# EAGLE library part LCD-16BIT-TOUCH-SDCARD-2.4 (library p.peter-periphery)
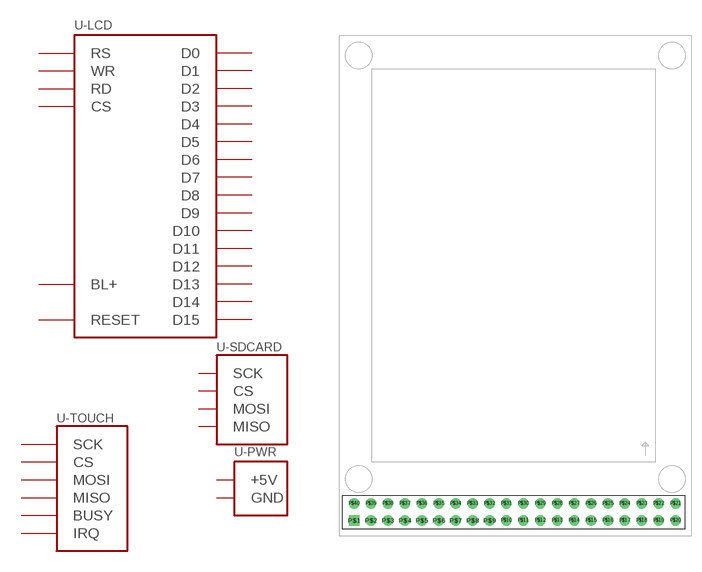
[diagram p3: symbol with the pads of LCD-2_4-TOUCH-DIP; footprint LCD-2_4-TOUCH-DIP]

Designator prefix -; gates -LCD=LCD-16BIT-DATA -PWR=LCD-16BIT-PWR -TOUCH=LCD-16BIT-TOUCH -SDCARD=LCD-S6BIT-SDCARD

## LCD-16BIT-TOUCH-SDCARD-2.4DIP  [LCD-2_4-TOUCH-DIP]
P$1  -PWR:GND  pwr
P$2  -PWR:+5V  pwr
P$4  -LCD:RS
P$5  -LCD:WR
P$6  -LCD:RD
P$7  -LCD:D8
P$8  -LCD:D9
P$9  -LCD:D10
P$10  -LCD:D11
P$11  -LCD:D12
P$12  -LCD:D13
P$13  -LCD:D14
P$14  -LCD:D15
P$15  -LCD:CS
P$17  -LCD:RESET
P$19  -LCD:BL+
P$23  -SDCARD:CS
P$24  -SDCARD:MOSI
P$25  -SDCARD:SCK
P$26  -SDCARD:MISO
P$27  -TOUCH:IRQ
P$28  -TOUCH:MISO
P$29  -TOUCH:BUSY
P$30  -TOUCH:MOSI
P$31  -TOUCH:CS
P$32  -TOUCH:SCK
P$33  -LCD:D7
P$34  -LCD:D6
P$35  -LCD:D5
P$36  -LCD:D4
P$37  -LCD:D3
P$38  -LCD:D2
P$39  -LCD:D1
P$40  -LCD:D0

## Footprint LCD-2_4-TOUCH-DIP (pad centres in mm)
drill 1.016 square: P$1 -24.18,-35.25
drill 1.016: P$2 -21.64,-35.25; P$3 -19.1,-35.25; P$4 -16.56,-35.25; P$5 -14.02,-35.25; P$6 -11.48,-35.25; P$7 -8.94,-35.25; P$8 -6.4,-35.25; P$9 -3.86,-35.25; P$10 -1.32,-35.25; P$11 1.22,-35.25; P$12 3.76,-35.25; P$13 6.3,-35.25; P$14 8.84,-35.25; P$15 11.38,-35.25; P$16 13.92,-35.25; P$17 16.46,-35.25; P$18 19,-35.25; P$19 21.54,-35.25; P$20 24.08,-35.25; P$21 24.08,-32.71; P$22 21.54,-32.71; P$23 19,-32.71; P$24 16.46,-32.71; P$25 13.92,-32.71; P$26 11.38,-32.71; P$27 8.84,-32.71; P$28 6.3,-32.71; P$29 3.76,-32.71; P$30 1.22,-32.71; P$31 -1.32,-32.71; P$32 -3.86,-32.71; P$33 -6.4,-32.71; P$34 -8.94,-32.71; P$35 -11.48,-32.71; P$36 -14.02,-32.71; P$37 -16.56,-32.71; P$38 -19.1,-32.71; P$39 -21.64,-32.71; P$40 -24.18,-32.71